# Altium integrated library Motorola Discrete SCR.IntLib: 35 symbols
Pins are listed as number, name and electrical type; pins without a type are passive.

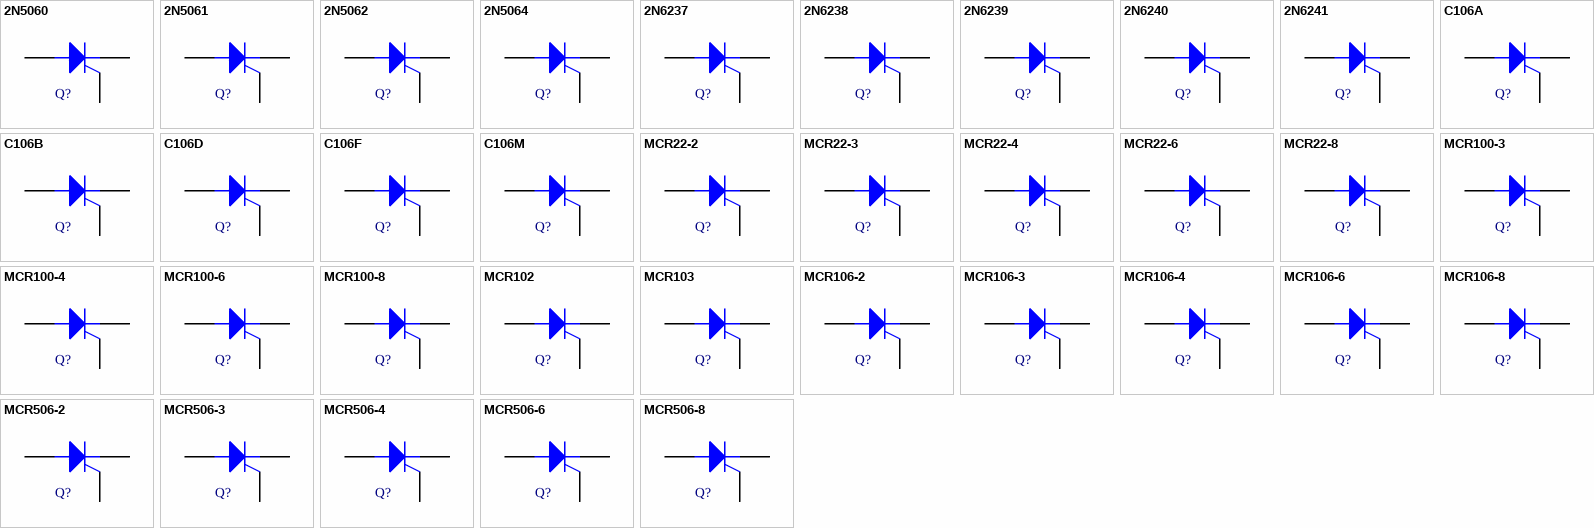
[diagram p0: symbols 2N5060 to MCR506-8]

## 2N5060
designator Q?
Silicon Controlled Rectifier; Published: 29-Sep-2000; LatestRevisionDate: 17-Jul-2002; LatestRevisionNote: Re-released for DXP Platform.; DatasheetVersion: 1995; PackageVersion: 1996; PackageReference: 29-04; Publisher: Altium Limited; PackageDescription: TO, Flat Index; 3 In-Line, Axial Leads; Body Dia. 4.8mm; Leads 0.48 x 0.5 mm (max); ComponentLink1Description: Manufacturer Link; ComponentLink1URL: http://www.onsemi.com/site/products/landing?taxonomyID=194; ComponentLink2Description: Datasheet; ComponentLink2URL: http://www.onsemi.com/pub/Collateral/2N5060-D.PDF
footprint 29-04 (TO, Flat Index; 3 In-Line, Axial Leads; Body Dia. 4.8mm; Leads 0.48 x 0.5 mm (max))
simulation model 2N5060 (SUBCKT)
pins: 1 K, 2 G, 3 A

## 2N5061
designator Q?
Silicon Controlled Rectifier; Published: 29-Sep-2000; LatestRevisionDate: 17-Jul-2002; LatestRevisionNote: Re-released for DXP Platform.; DatasheetVersion: 1995; PackageVersion: 1996; PackageReference: 29-04; Publisher: Altium Limited; PackageDescription: TO, Flat Index; 3 In-Line, Axial Leads; Body Dia. 4.8mm; Leads 0.48 x 0.5 mm (max); ComponentLink1Description: Manufacturer Link; ComponentLink1URL: http://www.onsemi.com/site/products/landing?taxonomyID=194; ComponentLink2Description: Datasheet; ComponentLink2URL: http://www.onsemi.com/pub/Collateral/2N5060-D.PDF
footprint 29-04 (TO, Flat Index; 3 In-Line, Axial Leads; Body Dia. 4.8mm; Leads 0.48 x 0.5 mm (max))
simulation model 2N5061 (SUBCKT)
pins: 1 K, 2 G, 3 A

## 2N5062
designator Q?
Silicon Controlled Rectifier; Published: 29-Sep-2000; LatestRevisionDate: 17-Jul-2002; LatestRevisionNote: Re-released for DXP Platform.; DatasheetVersion: 1995; PackageVersion: 1996; PackageReference: 29-04; Publisher: Altium Limited; PackageDescription: TO, Flat Index; 3 In-Line, Axial Leads; Body Dia. 4.8mm; Leads 0.48 x 0.5 mm (max); ComponentLink1Description: Manufacturer Link; ComponentLink1URL: http://www.onsemi.com/site/products/landing?taxonomyID=194; ComponentLink2Description: Datasheet; ComponentLink2URL: http://www.onsemi.com/pub/Collateral/2N5060-D.PDF
footprint 29-04 (TO, Flat Index; 3 In-Line, Axial Leads; Body Dia. 4.8mm; Leads 0.48 x 0.5 mm (max))
simulation model 2N5062 (SUBCKT)
pins: 1 K, 2 G, 3 A

## 2N5064
designator Q?
Silicon Controlled Rectifier; Published: 29-Sep-2000; LatestRevisionDate: 17-Jul-2002; LatestRevisionNote: Re-released for DXP Platform.; DatasheetVersion: 1995; PackageVersion: 1996; PackageReference: 29-04; Publisher: Altium Limited; PackageDescription: TO, Flat Index; 3 In-Line, Axial Leads; Body Dia. 4.8mm; Leads 0.48 x 0.5 mm (max); ComponentLink1Description: Manufacturer Link; ComponentLink1URL: http://www.onsemi.com/site/products/landing?taxonomyID=194; ComponentLink2Description: Datasheet; ComponentLink2URL: http://www.onsemi.com/pub/Collateral/2N5060-D.PDF
footprint 29-04 (TO, Flat Index; 3 In-Line, Axial Leads; Body Dia. 4.8mm; Leads 0.48 x 0.5 mm (max))
simulation model 2N5064 (SUBCKT)
pins: 1 K, 2 G, 3 A

## 2N6237
designator Q?
Silicon Controlled Rectifier; Published: 29-Sep-2000; LatestRevisionDate: 17-Jul-2002; LatestRevisionNote: Re-released for DXP Platform.; DatasheetVersion: Apr-1995; PackageVersion: Apr-1995; PackageReference: 77-08; Publisher: Altium Limited; PackageDescription: SIP with Mounting Hole; 3 Leads; Body 11 x 7.6 x 2.5 mm (typ); Pitch 2.39 mm; ComponentLink1Description: Manufacturer Link; ComponentLink1URL: http://www.onsemi.com/site/products/landing?taxonomyID=194
footprint 77-08 (SIP with Mounting Hole; 3 Leads; Body 11 x 7.6 x 2.5 mm (typ); Pitch 2.39 mm)
simulation model 2N6237 (SUBCKT)
pins: 1 K, 2 A, 3 G

## 2N6238
designator Q?
Silicon Controlled Rectifier; Published: 29-Sep-2000; LatestRevisionDate: 17-Jul-2002; LatestRevisionNote: Re-released for DXP Platform.; DatasheetVersion: Apr-1995; PackageVersion: Apr-1995; PackageReference: 77-08; Publisher: Altium Limited; PackageDescription: SIP with Mounting Hole; 3 Leads; Body 11 x 7.6 x 2.5 mm (typ); Pitch 2.39 mm; ComponentLink1Description: Manufacturer Link; ComponentLink1URL: http://www.onsemi.com/site/products/landing?taxonomyID=194
footprint 77-08 (SIP with Mounting Hole; 3 Leads; Body 11 x 7.6 x 2.5 mm (typ); Pitch 2.39 mm)
simulation model 2N6238 (SUBCKT)
pins: 1 K, 2 A, 3 G

## 2N6239
designator Q?
Silicon Controlled Rectifier; Published: 29-Sep-2000; LatestRevisionDate: 17-Jul-2002; LatestRevisionNote: Re-released for DXP Platform.; DatasheetVersion: Apr-1995; PackageVersion: Apr-1995; PackageReference: 77-08; Publisher: Altium Limited; PackageDescription: SIP with Mounting Hole; 3 Leads; Body 11 x 7.6 x 2.5 mm (typ); Pitch 2.39 mm; ComponentLink1Description: Manufacturer Link; ComponentLink1URL: http://www.onsemi.com/site/products/landing?taxonomyID=194
footprint 77-08 (SIP with Mounting Hole; 3 Leads; Body 11 x 7.6 x 2.5 mm (typ); Pitch 2.39 mm)
simulation model 2N6239 (SUBCKT)
pins: 1 K, 2 A, 3 G

## 2N6240
designator Q?
Silicon Controlled Rectifier; Published: 29-Sep-2000; LatestRevisionDate: 17-Jul-2002; LatestRevisionNote: Re-released for DXP Platform.; DatasheetVersion: Apr-1995; PackageVersion: Apr-1995; PackageReference: 77-08; Publisher: Altium Limited; PackageDescription: SIP with Mounting Hole; 3 Leads; Body 11 x 7.6 x 2.5 mm (typ); Pitch 2.39 mm; ComponentLink1Description: Manufacturer Link; ComponentLink1URL: http://www.onsemi.com/site/products/landing?taxonomyID=194
footprint 77-08 (SIP with Mounting Hole; 3 Leads; Body 11 x 7.6 x 2.5 mm (typ); Pitch 2.39 mm)
simulation model 2N6240 (SUBCKT)
pins: 1 K, 2 A, 3 G

## 2N6241
designator Q?
Silicon Controlled Rectifier; Published: 29-Sep-2000; LatestRevisionDate: 17-Jul-2002; LatestRevisionNote: Re-released for DXP Platform.; DatasheetVersion: Apr-1995; PackageVersion: Apr-1995; PackageReference: 77-08; Publisher: Altium Limited; PackageDescription: SIP with Mounting Hole; 3 Leads; Body 11 x 7.6 x 2.5 mm (typ); Pitch 2.39 mm; ComponentLink1Description: Manufacturer Link; ComponentLink1URL: http://www.onsemi.com/site/products/landing?taxonomyID=194
footprint 77-08 (SIP with Mounting Hole; 3 Leads; Body 11 x 7.6 x 2.5 mm (typ); Pitch 2.39 mm)
simulation model 2N6241 (SUBCKT)
pins: 1 K, 2 A, 3 G

## C106A
designator Q?
Silicon Controlled Rectifier; Published: 29-Sep-2000; LatestRevisionDate: 17-Jul-2002; LatestRevisionNote: Re-released for DXP Platform.; DatasheetVersion: 1999; PackageVersion: Apr-1995; PackageReference: 77-08; Publisher: Altium Limited; PackageDescription: SIP with Mounting Hole; 3 Leads; Body 11 x 7.6 x 2.5 mm (typ); Pitch 2.39 mm; ComponentLink1Description: Manufacturer Link; ComponentLink1URL: http://www.onsemi.com/site/products/landing?taxonomyID=194
footprint 77-08 (SIP with Mounting Hole; 3 Leads; Body 11 x 7.6 x 2.5 mm (typ); Pitch 2.39 mm)
simulation model C106A (SUBCKT)
pins: 1 K, 2 A, 3 G

## C106B
designator Q?
Silicon Controlled Rectifier; Published: 29-Sep-2000; LatestRevisionDate: 17-Jul-2002; LatestRevisionNote: Re-released for DXP Platform.; DatasheetVersion: 1999; PackageVersion: Apr-1995; PackageReference: 77-08; Publisher: Altium Limited; PackageDescription: SIP with Mounting Hole; 3 Leads; Body 11 x 7.6 x 2.5 mm (typ); Pitch 2.39 mm; ComponentLink1Description: Manufacturer Link; ComponentLink1URL: http://www.onsemi.com/site/products/landing?taxonomyID=194
footprint 77-08 (SIP with Mounting Hole; 3 Leads; Body 11 x 7.6 x 2.5 mm (typ); Pitch 2.39 mm)
simulation model C106B (SUBCKT)
pins: 1 K, 2 A, 3 G

## C106D
designator Q?
Silicon Controlled Rectifier; Published: 29-Sep-2000; LatestRevisionDate: 17-Jul-2002; LatestRevisionNote: Re-released for DXP Platform.; DatasheetVersion: 1999; PackageVersion: Apr-1995; PackageReference: 77-08; Publisher: Altium Limited; PackageDescription: SIP with Mounting Hole; 3 Leads; Body 11 x 7.6 x 2.5 mm (typ); Pitch 2.39 mm; ComponentLink1Description: Manufacturer Link; ComponentLink1URL: http://www.onsemi.com/site/products/landing?taxonomyID=194
footprint 77-08 (SIP with Mounting Hole; 3 Leads; Body 11 x 7.6 x 2.5 mm (typ); Pitch 2.39 mm)
simulation model C106D (SUBCKT)
pins: 1 K, 2 A, 3 G

## C106F
designator Q?
Silicon Controlled Rectifier; Published: 29-Sep-2000; LatestRevisionDate: 17-Jul-2002; LatestRevisionNote: Re-released for DXP Platform.; DatasheetVersion: 1999; PackageVersion: Apr-1995; PackageReference: 77-08; Publisher: Altium Limited; PackageDescription: SIP with Mounting Hole; 3 Leads; Body 11 x 7.6 x 2.5 mm (typ); Pitch 2.39 mm; ComponentLink1Description: Manufacturer Link; ComponentLink1URL: http://www.onsemi.com/site/products/landing?taxonomyID=194
footprint 77-08 (SIP with Mounting Hole; 3 Leads; Body 11 x 7.6 x 2.5 mm (typ); Pitch 2.39 mm)
simulation model C106F (SUBCKT)
pins: 1 K, 2 A, 3 G

## C106M
designator Q?
Silicon Controlled Rectifier; Published: 29-Sep-2000; LatestRevisionDate: 17-Jul-2002; LatestRevisionNote: Re-released for DXP Platform.; DatasheetVersion: 1999; PackageVersion: Apr-1995; PackageReference: 77-08; Publisher: Altium Limited; PackageDescription: SIP with Mounting Hole; 3 Leads; Body 11 x 7.6 x 2.5 mm (typ); Pitch 2.39 mm; ComponentLink1Description: Manufacturer Link; ComponentLink1URL: http://www.onsemi.com/site/products/landing?taxonomyID=194
footprint 77-08 (SIP with Mounting Hole; 3 Leads; Body 11 x 7.6 x 2.5 mm (typ); Pitch 2.39 mm)
simulation model C106M (SUBCKT)
pins: 1 K, 2 A, 3 G

## MCR22-2
designator Q?
Silicon Controlled Rectifier; Published: 29-Sep-2000; LatestRevisionDate: 17-Jul-2002; LatestRevisionNote: Re-released for DXP Platform.; DatasheetVersion: Apr-1995; PackageVersion: 1996; PackageReference: 29-04; Publisher: Altium Limited; PackageDescription: TO, Flat Index; 3 In-Line, Axial Leads; Body Dia. 4.8mm; Leads 0.48 x 0.5 mm (max); ComponentLink1Description: Manufacturer Link; ComponentLink1URL: http://www.onsemi.com/site/products/landing?taxonomyID=194; ComponentLink2Description: Datasheet; ComponentLink2URL: http://www.onsemi.com/pub/Collateral/MCR22-6-D.PDF
footprint 29-04 (TO, Flat Index; 3 In-Line, Axial Leads; Body Dia. 4.8mm; Leads 0.48 x 0.5 mm (max))
simulation model MCR22-2 (SUBCKT)
pins: 1 K, 2 G, 3 A

## MCR22-3
designator Q?
Silicon Controlled Rectifier; Published: 29-Sep-2000; LatestRevisionDate: 17-Jul-2002; LatestRevisionNote: Re-released for DXP Platform.; DatasheetVersion: Apr-1995; PackageVersion: 1996; PackageReference: 29-04; Publisher: Altium Limited; PackageDescription: TO, Flat Index; 3 In-Line, Axial Leads; Body Dia. 4.8mm; Leads 0.48 x 0.5 mm (max); ComponentLink1Description: Manufacturer Link; ComponentLink1URL: http://www.onsemi.com/site/products/landing?taxonomyID=194; ComponentLink2Description: Datasheet; ComponentLink2URL: http://www.onsemi.com/pub/Collateral/MCR22-6-D.PDF
footprint 29-04 (TO, Flat Index; 3 In-Line, Axial Leads; Body Dia. 4.8mm; Leads 0.48 x 0.5 mm (max))
simulation model MCR22-3 (SUBCKT)
pins: 1 K, 2 G, 3 A

## MCR22-4
designator Q?
Silicon Controlled Rectifier; Published: 29-Sep-2000; LatestRevisionDate: 17-Jul-2002; LatestRevisionNote: Re-released for DXP Platform.; DatasheetVersion: Apr-1995; PackageVersion: 1996; PackageReference: 29-04; Publisher: Altium Limited; PackageDescription: TO, Flat Index; 3 In-Line, Axial Leads; Body Dia. 4.8mm; Leads 0.48 x 0.5 mm (max); ComponentLink1Description: Manufacturer Link; ComponentLink1URL: http://www.onsemi.com/site/products/landing?taxonomyID=194; ComponentLink2Description: Datasheet; ComponentLink2URL: http://www.onsemi.com/pub/Collateral/MCR22-6-D.PDF
footprint 29-04 (TO, Flat Index; 3 In-Line, Axial Leads; Body Dia. 4.8mm; Leads 0.48 x 0.5 mm (max))
simulation model MCR22-4 (SUBCKT)
pins: 1 K, 2 G, 3 A

## MCR22-6
designator Q?
Silicon Controlled Rectifier; Published: 29-Sep-2000; LatestRevisionDate: 17-Jul-2002; LatestRevisionNote: Re-released for DXP Platform.; DatasheetVersion: 1998; PackageVersion: 1998; PackageReference: 29-11; Publisher: Altium Limited; PackageDescription: TO, Flat Index; 3 In-Line, Axial Leads; Body Dia. 4.8mm; Leads 0.53 x 0.5 mm (max); ComponentLink1Description: Manufacturer Link; ComponentLink1URL: http://www.onsemi.com/site/products/landing?taxonomyID=194; ComponentLink2Description: Datasheet; ComponentLink2URL: http://www.onsemi.com/pub/Collateral/MCR22-6-D.PDF
footprint 29-11 (TO, Flat Index; 3 In-Line, Axial Leads; Body Dia. 4.8mm; Leads 0.53 x 0.5 mm (max))
simulation model MCR22-6 (SUBCKT)
pins: 1 K, 2 G, 3 A

## MCR22-8
designator Q?
Silicon Controlled Rectifier; Published: 29-Sep-2000; LatestRevisionDate: 17-Jul-2002; LatestRevisionNote: Re-released for DXP Platform.; DatasheetVersion: 1998; PackageVersion: 1998; PackageReference: 29-11; Publisher: Altium Limited; PackageDescription: TO, Flat Index; 3 In-Line, Axial Leads; Body Dia. 4.8mm; Leads 0.53 x 0.5 mm (max); ComponentLink1Description: Manufacturer Link; ComponentLink1URL: http://www.onsemi.com/site/products/landing?taxonomyID=194; ComponentLink2Description: Datasheet; ComponentLink2URL: http://www.onsemi.com/pub/Collateral/MCR22-6-D.PDF
footprint 29-11 (TO, Flat Index; 3 In-Line, Axial Leads; Body Dia. 4.8mm; Leads 0.53 x 0.5 mm (max))
simulation model MCR22-8 (SUBCKT)
pins: 1 K, 2 G, 3 A

## MCR100-3
designator Q?
Silicon Controlled Rectifier; Published: 29-Sep-2000; LatestRevisionDate: 17-Jul-2002; LatestRevisionNote: Re-released for DXP Platform.; DatasheetVersion: Apr-1995; PackageVersion: 1996; PackageReference: 29-04; Publisher: Altium Limited; PackageDescription: TO, Flat Index; 3 In-Line, Axial Leads; Body Dia. 4.8mm; Leads 0.48 x 0.5 mm (max); ComponentLink1Description: Manufacturer Link; ComponentLink1URL: http://www.onsemi.com/site/products/landing?taxonomyID=194; ComponentLink2Description: Datasheet; ComponentLink2URL: http://www.onsemi.com/pub/Collateral/MCR100-D.PDF
footprint 29-04 (TO, Flat Index; 3 In-Line, Axial Leads; Body Dia. 4.8mm; Leads 0.48 x 0.5 mm (max))
simulation model MCR100-3 (SUBCKT)
pins: 1 K, 2 G, 3 A

## MCR100-4
designator Q?
Silicon Controlled Rectifier; Published: 29-Sep-2000; LatestRevisionDate: 17-Jul-2002; LatestRevisionNote: Re-released for DXP Platform.; DatasheetVersion: Apr-1995; PackageVersion: 1996; PackageReference: 29-04; Publisher: Altium Limited; PackageDescription: TO, Flat Index; 3 In-Line, Axial Leads; Body Dia. 4.8mm; Leads 0.48 x 0.5 mm (max); ComponentLink1Description: Manufacturer Link; ComponentLink1URL: http://www.onsemi.com/site/products/landing?taxonomyID=194; ComponentLink2Description: Datasheet; ComponentLink2URL: http://www.onsemi.com/pub/Collateral/MCR100-D.PDF
footprint 29-04 (TO, Flat Index; 3 In-Line, Axial Leads; Body Dia. 4.8mm; Leads 0.48 x 0.5 mm (max))
simulation model MCR100-4 (SUBCKT)
pins: 1 K, 2 G, 3 A

## MCR100-6
designator Q?
Silicon Controlled Rectifier; Published: 29-Sep-2000; LatestRevisionDate: 17-Jul-2002; LatestRevisionNote: Re-released for DXP Platform.; DatasheetVersion: 1998; PackageVersion: 1998; PackageReference: 29-11; Publisher: Altium Limited; PackageDescription: TO, Flat Index; 3 In-Line, Axial Leads; Body Dia. 4.8mm; Leads 0.53 x 0.5 mm (max); ComponentLink1Description: Manufacturer Link; ComponentLink1URL: http://www.onsemi.com/site/products/landing?taxonomyID=194; ComponentLink2Description: Datasheet; ComponentLink2URL: http://www.onsemi.com/pub/Collateral/MCR100-D.PDF
footprint 29-11 (TO, Flat Index; 3 In-Line, Axial Leads; Body Dia. 4.8mm; Leads 0.53 x 0.5 mm (max))
simulation model MCR100-6 (SUBCKT)
pins: 1 K, 2 G, 3 A

## MCR100-8
designator Q?
Silicon Controlled Rectifier; Published: 29-Sep-2000; LatestRevisionDate: 17-Jul-2002; LatestRevisionNote: Re-released for DXP Platform.; DatasheetVersion: 1998; PackageVersion: 1998; PackageReference: 29-11; Publisher: Altium Limited; PackageDescription: TO, Flat Index; 3 In-Line, Axial Leads; Body Dia. 4.8mm; Leads 0.53 x 0.5 mm (max); ComponentLink1Description: Manufacturer Link; ComponentLink1URL: http://www.onsemi.com/site/products/landing?taxonomyID=194; ComponentLink2Description: Datasheet; ComponentLink2URL: http://www.onsemi.com/pub/Collateral/MCR100-D.PDF
footprint 29-11 (TO, Flat Index; 3 In-Line, Axial Leads; Body Dia. 4.8mm; Leads 0.53 x 0.5 mm (max))
simulation model MCR100-8 (SUBCKT)
pins: 1 K, 2 G, 3 A

## MCR102
designator Q?
Silicon Controlled Rectifier; Published: 29-Sep-2000; LatestRevisionDate: 17-Jul-2002; LatestRevisionNote: Re-released for DXP Platform.; DatasheetVersion: Apr-1995; PackageVersion: 1996; PackageReference: 29-04; Publisher: Altium Limited; PackageDescription: TO, Flat Index; 3 In-Line, Axial Leads; Body Dia. 4.8mm; Leads 0.48 x 0.5 mm (max); ComponentLink1Description: Manufacturer Link; ComponentLink1URL: http://www.onsemi.com/site/products/landing?taxonomyID=194
footprint 29-04 (TO, Flat Index; 3 In-Line, Axial Leads; Body Dia. 4.8mm; Leads 0.48 x 0.5 mm (max))
simulation model MCR102 (SUBCKT)
pins: 1 K, 2 G, 3 A

## MCR103
designator Q?
Silicon Controlled Rectifier; Published: 29-Sep-2000; LatestRevisionDate: 17-Jul-2002; LatestRevisionNote: Re-released for DXP Platform.; DatasheetVersion: Apr-1995; PackageVersion: 1996; PackageReference: 29-04; Publisher: Altium Limited; PackageDescription: TO, Flat Index; 3 In-Line, Axial Leads; Body Dia. 4.8mm; Leads 0.48 x 0.5 mm (max); ComponentLink1Description: Manufacturer Link; ComponentLink1URL: http://www.onsemi.com/site/products/landing?taxonomyID=194
footprint 29-04 (TO, Flat Index; 3 In-Line, Axial Leads; Body Dia. 4.8mm; Leads 0.48 x 0.5 mm (max))
simulation model MCR103 (SUBCKT)
pins: 1 K, 2 G, 3 A

## MCR106-2
designator Q?
Silicon Controlled Rectifier; Published: 29-Sep-2000; LatestRevisionDate: 17-Jul-2002; LatestRevisionNote: Re-released for DXP Platform.; DatasheetVersion: Apr-1995; PackageVersion: Apr-1995; PackageReference: 77-08; Publisher: Altium Limited; PackageDescription: SIP with Mounting Hole; 3 Leads; Body 11 x 7.6 x 2.5 mm (typ); Pitch 2.39 mm; ComponentLink1Description: Manufacturer Link; ComponentLink1URL: http://www.onsemi.com/site/products/landing?taxonomyID=194
footprint 77-08 (SIP with Mounting Hole; 3 Leads; Body 11 x 7.6 x 2.5 mm (typ); Pitch 2.39 mm)
simulation model MCR106-2 (SUBCKT)
pins: 1 K, 2 A, 3 G

## MCR106-3
designator Q?
Silicon Controlled Rectifier; Published: 29-Sep-2000; LatestRevisionDate: 17-Jul-2002; LatestRevisionNote: Re-released for DXP Platform.; DatasheetVersion: Apr-1995; PackageVersion: Apr-1995; PackageReference: 77-08; Publisher: Altium Limited; PackageDescription: SIP with Mounting Hole; 3 Leads; Body 11 x 7.6 x 2.5 mm (typ); Pitch 2.39 mm; ComponentLink1Description: Manufacturer Link; ComponentLink1URL: http://www.onsemi.com/site/products/landing?taxonomyID=194
footprint 77-08 (SIP with Mounting Hole; 3 Leads; Body 11 x 7.6 x 2.5 mm (typ); Pitch 2.39 mm)
simulation model MCR106-3 (SUBCKT)
pins: 1 K, 2 A, 3 G

## MCR106-4
designator Q?
Silicon Controlled Rectifier; Published: 29-Sep-2000; LatestRevisionDate: 17-Jul-2002; LatestRevisionNote: Re-released for DXP Platform.; DatasheetVersion: Apr-1995; PackageVersion: Apr-1995; PackageReference: 77-08; Publisher: Altium Limited; PackageDescription: SIP with Mounting Hole; 3 Leads; Body 11 x 7.6 x 2.5 mm (typ); Pitch 2.39 mm; ComponentLink1Description: Manufacturer Link; ComponentLink1URL: http://www.onsemi.com/site/products/landing?taxonomyID=194
footprint 77-08 (SIP with Mounting Hole; 3 Leads; Body 11 x 7.6 x 2.5 mm (typ); Pitch 2.39 mm)
simulation model MCR106-4 (SUBCKT)
pins: 1 K, 2 A, 3 G

## MCR106-6
designator Q?
Silicon Controlled Rectifier; Published: 29-Sep-2000; LatestRevisionDate: 17-Jul-2002; LatestRevisionNote: Re-released for DXP Platform.; DatasheetVersion: 1999; PackageVersion: 1999; PackageReference: 77-09; Publisher: Altium Limited; PackageDescription: SIP with Mounting Hole; 3 Leads; Body 11 x 7.6 x 2.5 mm (typ); Pitch 2.39 mm; ComponentLink1Description: Manufacturer Link; ComponentLink1URL: http://www.onsemi.com/site/products/landing?taxonomyID=194; ComponentLink2Description: Datasheet; ComponentLink2URL: http://www.onsemi.com/pub/Collateral/MCR106-D.PDF
footprint 77-09 (SIP with Mounting Hole; 3 Leads; Body 11 x 7.6 x 2.5 mm (typ); Pitch 2.39 mm)
pins: 1 K, 2 A, 3 G

## MCR106-8
designator Q?
Silicon Controlled Rectifier; Published: 29-Sep-2000; LatestRevisionDate: 17-Jul-2002; LatestRevisionNote: Re-released for DXP Platform.; DatasheetVersion: 1999; PackageVersion: 1999; PackageReference: 77-09; Publisher: Altium Limited; PackageDescription: SIP with Mounting Hole; 3 Leads; Body 11 x 7.6 x 2.5 mm (typ); Pitch 2.39 mm; ComponentLink1Description: Manufacturer Link; ComponentLink1URL: http://www.onsemi.com/site/products/landing?taxonomyID=194; ComponentLink2Description: Datasheet; ComponentLink2URL: http://www.onsemi.com/pub/Collateral/MCR106-D.PDF
footprint 77-09 (SIP with Mounting Hole; 3 Leads; Body 11 x 7.6 x 2.5 mm (typ); Pitch 2.39 mm)
pins: 1 K, 2 A, 3 G

## MCR506-2
designator Q?
Silicon Controlled Rectifier; Published: 29-Sep-2000; LatestRevisionDate: 17-Jul-2002; LatestRevisionNote: Re-released for DXP Platform.; DatasheetVersion: Apr-1995; PackageVersion: Apr-1995; PackageReference: 77-08; Publisher: Altium Limited; PackageDescription: SIP with Mounting Hole; 3 Leads; Body 11 x 7.6 x 2.5 mm (typ); Pitch 2.39 mm; ComponentLink1Description: Manufacturer Link; ComponentLink1URL: http://www.onsemi.com/site/products/landing?taxonomyID=194
footprint 77-08 (SIP with Mounting Hole; 3 Leads; Body 11 x 7.6 x 2.5 mm (typ); Pitch 2.39 mm)
simulation model MCR506-2 (SUBCKT)
pins: 1 K, 2 A, 3 G

## MCR506-3
designator Q?
Silicon Controlled Rectifier; Published: 29-Sep-2000; LatestRevisionDate: 17-Jul-2002; LatestRevisionNote: Re-released for DXP Platform.; DatasheetVersion: Apr-1995; PackageVersion: Apr-1995; PackageReference: 77-08; Publisher: Altium Limited; PackageDescription: SIP with Mounting Hole; 3 Leads; Body 11 x 7.6 x 2.5 mm (typ); Pitch 2.39 mm; ComponentLink1Description: Manufacturer Link; ComponentLink1URL: http://www.onsemi.com/site/products/landing?taxonomyID=194
footprint 77-08 (SIP with Mounting Hole; 3 Leads; Body 11 x 7.6 x 2.5 mm (typ); Pitch 2.39 mm)
simulation model MCR506-3 (SUBCKT)
pins: 1 K, 2 A, 3 G

## MCR506-4
designator Q?
Silicon Controlled Rectifier; Published: 29-Sep-2000; LatestRevisionDate: 17-Jul-2002; LatestRevisionNote: Re-released for DXP Platform.; DatasheetVersion: Apr-1995; PackageVersion: Apr-1995; PackageReference: 77-08; Publisher: Altium Limited; PackageDescription: SIP with Mounting Hole; 3 Leads; Body 11 x 7.6 x 2.5 mm (typ); Pitch 2.39 mm; ComponentLink1Description: Manufacturer Link; ComponentLink1URL: http://www.onsemi.com/site/products/landing?taxonomyID=194
footprint 77-08 (SIP with Mounting Hole; 3 Leads; Body 11 x 7.6 x 2.5 mm (typ); Pitch 2.39 mm)
simulation model MCR506-4 (SUBCKT)
pins: 1 K, 2 A, 3 G

## MCR506-6
designator Q?
Silicon Controlled Rectifier; Published: 29-Sep-2000; LatestRevisionDate: 17-Jul-2002; LatestRevisionNote: Re-released for DXP Platform.; DatasheetVersion: Apr-1995; PackageVersion: Apr-1995; PackageReference: 77-08; Publisher: Altium Limited; PackageDescription: SIP with Mounting Hole; 3 Leads; Body 11 x 7.6 x 2.5 mm (typ); Pitch 2.39 mm; ComponentLink1Description: Manufacturer Link; ComponentLink1URL: http://www.onsemi.com/site/products/landing?taxonomyID=194
footprint 77-08 (SIP with Mounting Hole; 3 Leads; Body 11 x 7.6 x 2.5 mm (typ); Pitch 2.39 mm)
simulation model MCR506-6 (SUBCKT)
pins: 1 K, 2 A, 3 G

## MCR506-8
designator Q?
Silicon Controlled Rectifier; Published: 29-Sep-2000; LatestRevisionDate: 17-Jul-2002; LatestRevisionNote: Re-released for DXP Platform.; DatasheetVersion: Apr-1995; PackageVersion: Apr-1995; PackageReference: 77-08; Publisher: Altium Limited; PackageDescription: SIP with Mounting Hole; 3 Leads; Body 11 x 7.6 x 2.5 mm (typ); Pitch 2.39 mm; ComponentLink1Description: Manufacturer Link; ComponentLink1URL: http://www.onsemi.com/site/products/landing?taxonomyID=194
footprint 77-08 (SIP with Mounting Hole; 3 Leads; Body 11 x 7.6 x 2.5 mm (typ); Pitch 2.39 mm)
simulation model MCR506-8 (SUBCKT)
pins: 1 K, 2 A, 3 G